# Altium integrated library WE_SMSI_rev20c.IntLib: 169 symbols (part 1 of 3)
Pins are listed as number, name and electrical type; pins without a type are passive.

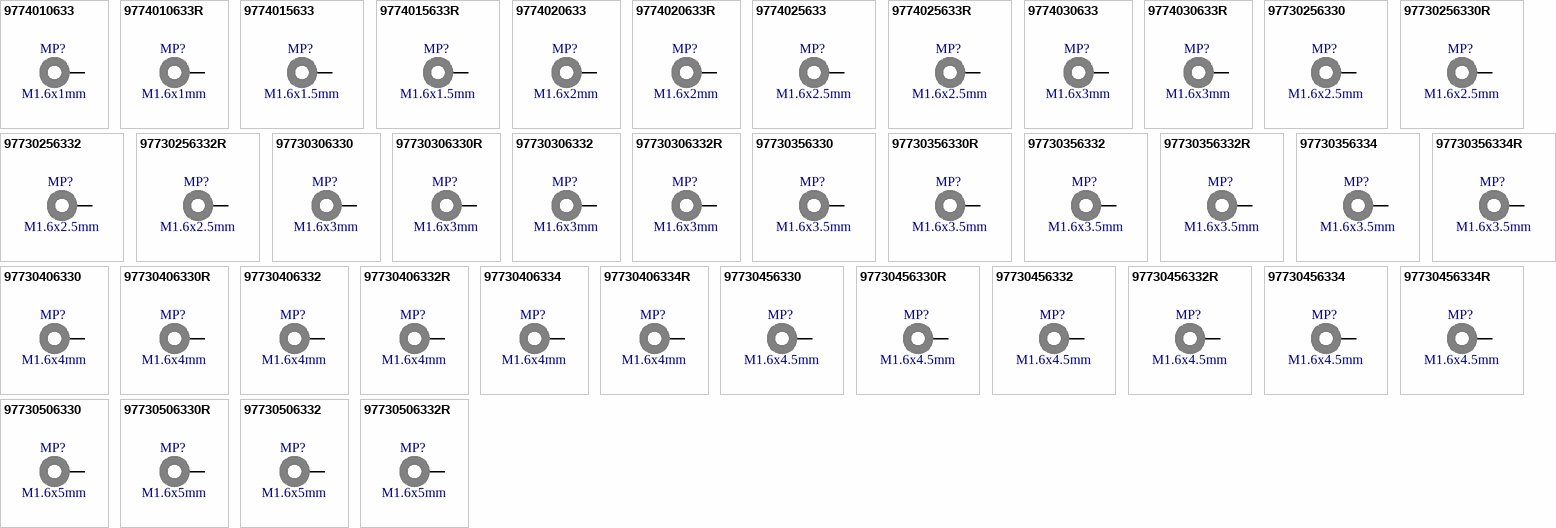
[diagram p0: symbols 9774010633 to 97730506332R]

## 9774010633
designator MP?, comment M1.6x1mm
WA-SMSI SMT Steel Spacer, M1.6 Thread Internal, OD 3.3mm, M1.6x1mm; Manufacturer Part Number: 9774010633; Manufacturer: Wurth Elektronik; Inner Diameter: 1.9mm; Surface: Tin; ComponentLink1Description: Manufacturer; ComponentLink1URL: http://www.we-online.de; ComponentLink2Description: Datasheet; ComponentLink2URL: https://www.we-online.com/catalog/datasheet/9774010633.pdf; Mounting Technology: SMT; Packaging: Bulk; Length: 1mm; Inner Thread Length: -; Operating Temperature: -55 to +150degC; Outer Diameter: 3.3mm; Published Date: April 2020; Material: Steel; Thread: M1.6
footprint 9774010633
pins: 1

## 9774010633R
designator MP?, comment M1.6x1mm
WA-SMSI SMT Steel Spacer, M1.6 Thread Internal, OD 3.3mm, M1.6x1mm; Manufacturer Part Number: 9774010633R; Manufacturer: Wurth Elektronik; Inner Diameter: 1.9mm; Surface: Tin; ComponentLink1Description: Manufacturer; ComponentLink1URL: http://www.we-online.de; ComponentLink2Description: Datasheet; ComponentLink2URL: https://www.we-online.com/catalog/datasheet/9774010633R.pdf; Mounting Technology: SMT; Packaging: Tape and Reel; Length: 1mm; Inner Thread Length: -; Operating Temperature: -55 to +150degC; Outer Diameter: 3.3mm; Published Date: April 2020; Material: Steel; Thread: M1.6
footprint 9774010633
pins: 1

## 9774015633
designator MP?, comment M1.6x1.5mm
WA-SMSI SMT Steel Spacer, M1.6 Thread Internal, OD 3.3mm, M1.6x1.5mm; Manufacturer Part Number: 9774015633; Manufacturer: Wurth Elektronik; Inner Diameter: 1.9mm; Surface: Tin; ComponentLink1Description: Manufacturer; ComponentLink1URL: http://www.we-online.de; ComponentLink2Description: Datasheet; ComponentLink2URL: https://www.we-online.com/catalog/datasheet/9774015633.pdf; Mounting Technology: SMT; Packaging: Bulk; Length: 1.5mm; Inner Thread Length: -; Operating Temperature: -55 to +150degC; Outer Diameter: 3.3mm; Published Date: April 2020; Material: Steel; Thread: M1.6
footprint 9774015633
pins: 1

## 9774015633R
designator MP?, comment M1.6x1.5mm
WA-SMSI SMT Steel Spacer, M1.6 Thread Internal, OD 3.3mm, M1.6x1.5mm; Manufacturer Part Number: 9774015633R; Manufacturer: Wurth Elektronik; Inner Diameter: 1.9mm; Surface: Tin; ComponentLink1Description: Manufacturer; ComponentLink1URL: http://www.we-online.de; ComponentLink2Description: Datasheet; ComponentLink2URL: https://www.we-online.com/catalog/datasheet/9774015633R.pdf; Mounting Technology: SMT; Packaging: Tape and Reel; Length: 1.5mm; Inner Thread Length: -; Operating Temperature: -55 to +150degC; Outer Diameter: 3.3mm; Published Date: April 2020; Material: Steel; Thread: M1.6
footprint 9774015633
pins: 1

## 9774020633
designator MP?, comment M1.6x2mm
WA-SMSI SMT Steel Spacer, M1.6 Thread Internal, OD 3.3mm, M1.6x2mm; Manufacturer Part Number: 9774020633; Manufacturer: Wurth Elektronik; Inner Diameter: 1.9mm; Surface: Tin; ComponentLink1Description: Manufacturer; ComponentLink1URL: http://www.we-online.de; ComponentLink2Description: Datasheet; ComponentLink2URL: https://www.we-online.com/catalog/datasheet/9774020633.pdf; Mounting Technology: SMT; Packaging: Bulk; Length: 2mm; Inner Thread Length: -; Operating Temperature: -55 to +150degC; Outer Diameter: 3.3mm; Published Date: April 2020; Material: Steel; Thread: M1.6
footprint 9774020633
pins: 1

## 9774020633R
designator MP?, comment M1.6x2mm
WA-SMSI SMT Steel Spacer, M1.6 Thread Internal, OD 3.3mm, M1.6x2mm; Manufacturer Part Number: 9774020633R; Manufacturer: Wurth Elektronik; Inner Diameter: 1.9mm; Surface: Tin; ComponentLink1Description: Manufacturer; ComponentLink1URL: http://www.we-online.de; ComponentLink2Description: Datasheet; ComponentLink2URL: https://www.we-online.com/catalog/datasheet/9774020633R.pdf; Mounting Technology: SMT; Packaging: Tape and Reel; Length: 2mm; Inner Thread Length: -; Operating Temperature: -55 to +150degC; Outer Diameter: 3.3mm; Published Date: April 2020; Material: Steel; Thread: M1.6
footprint 9774020633
pins: 1

## 9774025633
designator MP?, comment M1.6x2.5mm
WA-SMSI SMT Steel Spacer, M1.6 Thread Internal, OD 3.3mm, M1.6x2.5mm; Manufacturer Part Number: 9774025633; Manufacturer: Wurth Elektronik; Inner Diameter: 1.9mm; Surface: Tin; ComponentLink1Description: Manufacturer; ComponentLink1URL: http://www.we-online.de; ComponentLink2Description: Datasheet; ComponentLink2URL: https://www.we-online.com/catalog/datasheet/9774025633.pdf; Mounting Technology: SMT; Packaging: Bulk; Length: 2.5mm; Inner Thread Length: -; Operating Temperature: -55 to +150degC; Outer Diameter: 3.3mm; Published Date: April 2020; Material: Steel; Thread: M1.6
footprint 9774025633
pins: 1

## 9774025633R
designator MP?, comment M1.6x2.5mm
WA-SMSI SMT Steel Spacer, M1.6 Thread Internal, OD 3.3mm, M1.6x2.5mm; Manufacturer Part Number: 9774025633R; Manufacturer: Wurth Elektronik; Inner Diameter: 1.9mm; Surface: Tin; ComponentLink1Description: Manufacturer; ComponentLink1URL: http://www.we-online.de; ComponentLink2Description: Datasheet; ComponentLink2URL: https://www.we-online.com/catalog/datasheet/9774025633R.pdf; Mounting Technology: SMT; Packaging: Tape and Reel; Length: 2.5mm; Inner Thread Length: -; Operating Temperature: -55 to +150degC; Outer Diameter: 3.3mm; Published Date: April 2020; Material: Steel; Thread: M1.6
footprint 9774025633
pins: 1

## 9774030633
designator MP?, comment M1.6x3mm
WA-SMSI SMT Steel Spacer, M1.6 Thread Internal, OD 3.3mm, M1.6x3mm; Manufacturer Part Number: 9774030633; Manufacturer: Wurth Elektronik; Inner Diameter: 1.9mm; Surface: Tin; ComponentLink1Description: Manufacturer; ComponentLink1URL: http://www.we-online.de; ComponentLink2Description: Datasheet; ComponentLink2URL: https://www.we-online.com/catalog/datasheet/9774030633.pdf; Mounting Technology: SMT; Packaging: Bulk; Length: 3mm; Inner Thread Length: -; Operating Temperature: -55 to +150degC; Outer Diameter: 3.3mm; Published Date: April 2020; Material: Steel; Thread: M1.6
footprint 9774030633
pins: 1

## 9774030633R
designator MP?, comment M1.6x3mm
WA-SMSI SMT Steel Spacer, M1.6 Thread Internal, OD 3.3mm, M1.6x3mm; Manufacturer Part Number: 9774030633R; Manufacturer: Wurth Elektronik; Inner Diameter: 1.9mm; Surface: Tin; ComponentLink1Description: Manufacturer; ComponentLink1URL: http://www.we-online.de; ComponentLink2Description: Datasheet; ComponentLink2URL: https://www.we-online.com/catalog/datasheet/9774030633R.pdf; Mounting Technology: SMT; Packaging: Tape and Reel; Length: 3mm; Inner Thread Length: -; Operating Temperature: -55 to +150degC; Outer Diameter: 3.3mm; Published Date: April 2020; Material: Steel; Thread: M1.6
footprint 9774030633
pins: 1

## 97730256330
designator MP?, comment M1.6x2.5mm
WA-SMSI SMT Steel Spacer, M1.6 Thread Internal Bottom closed, OD 3.3mm, M1.6x2.5mm; Manufacturer Part Number: 97730256330; Manufacturer: Wurth Elektronik; Inner Thread Length: 1.5mm; Surface: Tin; ComponentLink1Description: Manufacturer; ComponentLink1URL: http://www.we-online.de; ComponentLink2Description: Datasheet; ComponentLink2URL: https://www.we-online.com/catalog/datasheet/97730256330.pdf; Mounting Technology: SMT; Packaging: Bulk; Inner Diameter: -; Length: 2.5mm; Operating Temperature: -55 to +150degC; Outer Diameter: 3.3mm; Published Date: April 2020; Material: Steel; Thread: M1.6
footprint 97730256330
pins: 1

## 97730256330R
designator MP?, comment M1.6x2.5mm
WA-SMSI SMT Steel Spacer, M1.6 Thread Internal Bottom closed, OD 3.3mm, M1.6x2.5mm; Manufacturer Part Number: 97730256330R; Manufacturer: Wurth Elektronik; Inner Thread Length: 1.5mm; Surface: Tin; ComponentLink1Description: Manufacturer; ComponentLink1URL: http://www.we-online.de; ComponentLink2Description: Datasheet; ComponentLink2URL: https://www.we-online.com/catalog/datasheet/97730256330R.pdf; Mounting Technology: SMT; Packaging: Tape and Reel; Inner Diameter: -; Length: 2.5mm; Operating Temperature: -55 to +150degC; Outer Diameter: 3.3mm; Published Date: April 2020; Material: Steel; Thread: M1.6
footprint 97730256330
pins: 1

## 97730256332
designator MP?, comment M1.6x2.5mm
WA-SMSI SMT Steel Spacer, M1.6 Thread Internal with Pin, OD 3.3mm, M1.6x2.5mm; Manufacturer Part Number: 97730256332; Manufacturer: Wurth Elektronik; Inner Thread Length: 1.5mm; Surface: Tin; ComponentLink1Description: Manufacturer; ComponentLink1URL: http://www.we-online.de; ComponentLink2Description: Datasheet; ComponentLink2URL: https://www.we-online.com/catalog/datasheet/97730256332.pdf; Mounting Technology: SMT; Packaging: Bulk; Inner Diameter: -; Length: 2.5mm; Operating Temperature: -55 to +150degC; Outer Diameter: 3.3mm; Published Date: April 2020; Material: Steel; Thread: M1.6
footprint 97730256332
pins: 1

## 97730256332R
designator MP?, comment M1.6x2.5mm
WA-SMSI SMT Steel Spacer, M1.6 Thread Internal with Pin, OD 3.3mm, M1.6x2.5mm; Manufacturer Part Number: 97730256332R; Manufacturer: Wurth Elektronik; Inner Thread Length: 1.5mm; Surface: Tin; ComponentLink1Description: Manufacturer; ComponentLink1URL: http://www.we-online.de; ComponentLink2Description: Datasheet; ComponentLink2URL: https://www.we-online.com/catalog/datasheet/97730256332R.pdf; Mounting Technology: SMT; Packaging: Tape and Reel; Inner Diameter: -; Length: 2.5mm; Operating Temperature: -55 to +150degC; Outer Diameter: 3.3mm; Published Date: April 2020; Material: Steel; Thread: M1.6
footprint 97730256332
pins: 1

## 97730306330
designator MP?, comment M1.6x3mm
WA-SMSI SMT Steel Spacer, M1.6 Thread Internal Bottom closed, OD 3.3mm, M1.6x3mm; Manufacturer Part Number: 97730306330; Manufacturer: Wurth Elektronik; Inner Thread Length: 1.8mm; Surface: Tin; ComponentLink1Description: Manufacturer; ComponentLink1URL: http://www.we-online.de; ComponentLink2Description: Datasheet; ComponentLink2URL: https://www.we-online.com/catalog/datasheet/97730306330.pdf; Mounting Technology: SMT; Packaging: Bulk; Inner Diameter: -; Length: 3mm; Operating Temperature: -55 to +150degC; Outer Diameter: 3.3mm; Published Date: April 2020; Material: Steel; Thread: M1.6
footprint 97730306330
pins: 1

## 97730306330R
designator MP?, comment M1.6x3mm
WA-SMSI SMT Steel Spacer, M1.6 Thread Internal Bottom closed, OD 3.3mm, M1.6x3mm; Manufacturer Part Number: 97730306330R; Manufacturer: Wurth Elektronik; Inner Thread Length: 1.8mm; Surface: Tin; ComponentLink1Description: Manufacturer; ComponentLink1URL: http://www.we-online.de; ComponentLink2Description: Datasheet; ComponentLink2URL: https://www.we-online.com/catalog/datasheet/97730306330R.pdf; Mounting Technology: SMT; Packaging: Tape and Reel; Inner Diameter: -; Length: 3mm; Operating Temperature: -55 to +150degC; Outer Diameter: 3.3mm; Published Date: April 2020; Material: Steel; Thread: M1.6
footprint 97730306330
pins: 1

## 97730306332
designator MP?, comment M1.6x3mm
WA-SMSI SMT Steel Spacer, M1.6 Thread Internal with Pin, OD 3.3mm, M1.6x3mm; Manufacturer Part Number: 97730306332; Manufacturer: Wurth Elektronik; Inner Thread Length: 1.8mm; Surface: Tin; ComponentLink1Description: Manufacturer; ComponentLink1URL: http://www.we-online.de; ComponentLink2Description: Datasheet; ComponentLink2URL: https://www.we-online.com/catalog/datasheet/97730306332.pdf; Mounting Technology: SMT; Packaging: Bulk; Inner Diameter: -; Length: 3mm; Operating Temperature: -55 to +150degC; Outer Diameter: 3.3mm; Published Date: April 2020; Material: Steel; Thread: M1.6
footprint 97730306332
pins: 1

## 97730306332R
designator MP?, comment M1.6x3mm
WA-SMSI SMT Steel Spacer, M1.6 Thread Internal with Pin, OD 3.3mm, M1.6x3mm; Manufacturer Part Number: 97730306332R; Manufacturer: Wurth Elektronik; Inner Thread Length: 1.8mm; Surface: Tin; ComponentLink1Description: Manufacturer; ComponentLink1URL: http://www.we-online.de; ComponentLink2Description: Datasheet; ComponentLink2URL: https://www.we-online.com/catalog/datasheet/97730306332R.pdf; Mounting Technology: SMT; Packaging: Tape and Reel; Inner Diameter: -; Length: 3mm; Operating Temperature: -55 to +150degC; Outer Diameter: 3.3mm; Published Date: April 2020; Material: Steel; Thread: M1.6
footprint 97730306332
pins: 1

## 97730356330
designator MP?, comment M1.6x3.5mm
WA-SMSI SMT Steel Spacer, M1.6 Thread Internal Bottom closed, OD 3.3mm, M1.6x3.5mm; Manufacturer Part Number: 97730356330; Manufacturer: Wurth Elektronik; Inner Thread Length: 2mm; Surface: Tin; ComponentLink1Description: Manufacturer; ComponentLink1URL: http://www.we-online.de; ComponentLink2Description: Datasheet; ComponentLink2URL: https://www.we-online.com/catalog/datasheet/97730356330.pdf; Mounting Technology: SMT; Packaging: Bulk; Inner Diameter: -; Length: 3.5mm; Operating Temperature: -55 to +150degC; Outer Diameter: 3.3mm; Published Date: April 2020; Material: Steel; Thread: M1.6
footprint 97730356330
pins: 1

## 97730356330R
designator MP?, comment M1.6x3.5mm
WA-SMSI SMT Steel Spacer, M1.6 Thread Internal Bottom closed, OD 3.3mm, M1.6x3.5mm; Manufacturer Part Number: 97730356330R; Manufacturer: Wurth Elektronik; Inner Thread Length: 2mm; Surface: Tin; ComponentLink1Description: Manufacturer; ComponentLink1URL: http://www.we-online.de; ComponentLink2Description: Datasheet; ComponentLink2URL: https://www.we-online.com/catalog/datasheet/97730356330R.pdf; Mounting Technology: SMT; Packaging: Tape and Reel; Inner Diameter: -; Length: 3.5mm; Operating Temperature: -55 to +150degC; Outer Diameter: 3.3mm; Published Date: April 2020; Material: Steel; Thread: M1.6
footprint 97730356330
pins: 1

## 97730356332
designator MP?, comment M1.6x3.5mm
WA-SMSI SMT Steel Spacer, M1.6 Thread Internal with Pin, OD 3.3mm, M1.6x3.5mm; Manufacturer Part Number: 97730356332; Manufacturer: Wurth Elektronik; Inner Thread Length: 2mm; Surface: Tin; ComponentLink1Description: Manufacturer; ComponentLink1URL: http://www.we-online.de; ComponentLink2Description: Datasheet; ComponentLink2URL: https://www.we-online.com/catalog/datasheet/97730356332.pdf; Mounting Technology: SMT; Packaging: Bulk; Inner Diameter: -; Length: 3.5mm; Operating Temperature: -55 to +150degC; Outer Diameter: 3.3mm; Published Date: April 2020; Material: Steel; Thread: M1.6
footprint 97730356332
pins: 1

## 97730356332R
designator MP?, comment M1.6x3.5mm
WA-SMSI SMT Steel Spacer, M1.6 Thread Internal with Pin, OD 3.3mm, M1.6x3.5mm; Manufacturer Part Number: 97730356332R; Manufacturer: Wurth Elektronik; Inner Thread Length: 2mm; Surface: Tin; ComponentLink1Description: Manufacturer; ComponentLink1URL: http://www.we-online.de; ComponentLink2Description: Datasheet; ComponentLink2URL: https://www.we-online.com/catalog/datasheet/97730356332R.pdf; Mounting Technology: SMT; Packaging: Tape and Reel; Inner Diameter: -; Length: 3.5mm; Operating Temperature: -55 to +150degC; Outer Diameter: 3.3mm; Published Date: April 2020; Material: Steel; Thread: M1.6
footprint 97730356332
pins: 1

## 97730356334
designator MP?, comment M1.6x3.5mm
WA-SMSI SMT Steel Spacer, M1.6 Thread Internal, OD 3.3mm, M1.6x3.5mm; Manufacturer Part Number: 97730356334; Manufacturer: Wurth Elektronik; Inner Diameter: 1.9mm; Inner Thread Length: 2mm; Surface: Tin; ComponentLink1Description: Manufacturer; ComponentLink1URL: http://www.we-online.de; ComponentLink2Description: Datasheet; ComponentLink2URL: https://www.we-online.com/catalog/datasheet/97730356334.pdf; Mounting Technology: SMT; Packaging: Bulk; Length: 3.5mm; Operating Temperature: -55 to +150degC; Outer Diameter: 3.3mm; Published Date: April 2020; Material: Steel; Thread: M1.6
footprint 97730356334
pins: 1

## 97730356334R
designator MP?, comment M1.6x3.5mm
WA-SMSI SMT Steel Spacer, M1.6 Thread Internal, OD 3.3mm, M1.6x3.5mm; Manufacturer Part Number: 97730356334R; Manufacturer: Wurth Elektronik; Inner Diameter: 1.9mm; Inner Thread Length: 2mm; Surface: Tin; ComponentLink1Description: Manufacturer; ComponentLink1URL: http://www.we-online.de; ComponentLink2Description: Datasheet; ComponentLink2URL: https://www.we-online.com/catalog/datasheet/97730356334R.pdf; Mounting Technology: SMT; Packaging: Tape and Reel; Length: 3.5mm; Operating Temperature: -55 to +150degC; Outer Diameter: 3.3mm; Published Date: April 2020; Material: Steel; Thread: M1.6
footprint 97730356334
pins: 1

## 97730406330
designator MP?, comment M1.6x4mm
WA-SMSI SMT Steel Spacer, M1.6 Thread Internal Bottom closed, OD 3.3mm, M1.6x4mm; Manufacturer Part Number: 97730406330; Manufacturer: Wurth Elektronik; Inner Thread Length: 2mm; Surface: Tin; ComponentLink1Description: Manufacturer; ComponentLink1URL: http://www.we-online.de; ComponentLink2Description: Datasheet; ComponentLink2URL: https://www.we-online.com/catalog/datasheet/97730406330.pdf; Mounting Technology: SMT; Packaging: Bulk; Inner Diameter: -; Length: 4mm; Operating Temperature: -55 to +150degC; Outer Diameter: 3.3mm; Published Date: April 2020; Material: Steel; Thread: M1.6
footprint 97730406330
pins: 1

## 97730406330R
designator MP?, comment M1.6x4mm
WA-SMSI SMT Steel Spacer, M1.6 Thread Internal Bottom closed, OD 3.3mm, M1.6x4mm; Manufacturer Part Number: 97730406330R; Manufacturer: Wurth Elektronik; Inner Thread Length: 2mm; Surface: Tin; ComponentLink1Description: Manufacturer; ComponentLink1URL: http://www.we-online.de; ComponentLink2Description: Datasheet; ComponentLink2URL: https://www.we-online.com/catalog/datasheet/97730406330R.pdf; Mounting Technology: SMT; Packaging: Tape and Reel; Inner Diameter: -; Length: 4mm; Operating Temperature: -55 to +150degC; Outer Diameter: 3.3mm; Published Date: April 2020; Material: Steel; Thread: M1.6
footprint 97730406330
pins: 1

## 97730406332
designator MP?, comment M1.6x4mm
WA-SMSI SMT Steel Spacer, M1.6 Thread Internal with Pin, OD 3.3mm, M1.6x4mm; Manufacturer Part Number: 97730406332; Manufacturer: Wurth Elektronik; Inner Thread Length: 2mm; Surface: Tin; ComponentLink1Description: Manufacturer; ComponentLink1URL: http://www.we-online.de; ComponentLink2Description: Datasheet; ComponentLink2URL: https://www.we-online.com/catalog/datasheet/97730406332.pdf; Mounting Technology: SMT; Packaging: Bulk; Inner Diameter: -; Length: 4mm; Operating Temperature: -55 to +150degC; Outer Diameter: 3.3mm; Published Date: April 2020; Material: Steel; Thread: M1.6
footprint 97730406332
pins: 1

## 97730406332R
designator MP?, comment M1.6x4mm
WA-SMSI SMT Steel Spacer, M1.6 Thread Internal with Pin, OD 3.3mm, M1.6x4mm; Manufacturer Part Number: 97730406332R; Manufacturer: Wurth Elektronik; Inner Thread Length: 2mm; Surface: Tin; ComponentLink1Description: Manufacturer; ComponentLink1URL: http://www.we-online.de; ComponentLink2Description: Datasheet; ComponentLink2URL: https://www.we-online.com/catalog/datasheet/97730406332R.pdf; Mounting Technology: SMT; Packaging: Tape and Reel; Inner Diameter: -; Length: 4mm; Operating Temperature: -55 to +150degC; Outer Diameter: 3.3mm; Published Date: April 2020; Material: Steel; Thread: M1.6
footprint 97730406332
pins: 1

## 97730406334
designator MP?, comment M1.6x4mm
WA-SMSI SMT Steel Spacer, M1.6 Thread Internal, OD 3.3mm, M1.6x4mm; Manufacturer Part Number: 97730406334; Manufacturer: Wurth Elektronik; Inner Diameter: 1.9mm; Inner Thread Length: 2mm; Surface: Tin; ComponentLink1Description: Manufacturer; ComponentLink1URL: http://www.we-online.de; ComponentLink2Description: Datasheet; ComponentLink2URL: https://www.we-online.com/catalog/datasheet/97730406334.pdf; Mounting Technology: SMT; Packaging: Bulk; Length: 4mm; Operating Temperature: -55 to +150degC; Outer Diameter: 3.3mm; Published Date: April 2020; Material: Steel; Thread: M1.6
footprint 97730406334
pins: 1

## 97730406334R
designator MP?, comment M1.6x4mm
WA-SMSI SMT Steel Spacer, M1.6 Thread Internal, OD 3.3mm, M1.6x4mm; Manufacturer Part Number: 97730406334R; Manufacturer: Wurth Elektronik; Inner Diameter: 1.9mm; Inner Thread Length: 2mm; Surface: Tin; ComponentLink1Description: Manufacturer; ComponentLink1URL: http://www.we-online.de; ComponentLink2Description: Datasheet; ComponentLink2URL: https://www.we-online.com/catalog/datasheet/97730406334R.pdf; Mounting Technology: SMT; Packaging: Tape and Reel; Length: 4mm; Operating Temperature: -55 to +150degC; Outer Diameter: 3.3mm; Published Date: April 2020; Material: Steel; Thread: M1.6
footprint 97730406334
pins: 1

## 97730456330
designator MP?, comment M1.6x4.5mm
WA-SMSI SMT Steel Spacer, M1.6 Thread Internal Bottom closed, OD 3.3mm, M1.6x4.5mm; Manufacturer Part Number: 97730456330; Manufacturer: Wurth Elektronik; Inner Thread Length: 2mm; Surface: Tin; ComponentLink1Description: Manufacturer; ComponentLink1URL: http://www.we-online.de; ComponentLink2Description: Datasheet; ComponentLink2URL: https://www.we-online.com/catalog/datasheet/97730456330.pdf; Mounting Technology: SMT; Packaging: Bulk; Inner Diameter: -; Length: 4.5mm; Operating Temperature: -55 to +150degC; Outer Diameter: 3.3mm; Published Date: April 2020; Material: Steel; Thread: M1.6
footprint 97730456330
pins: 1

## 97730456330R
designator MP?, comment M1.6x4.5mm
WA-SMSI SMT Steel Spacer, M1.6 Thread Internal Bottom closed, OD 3.3mm, M1.6x4.5mm; Manufacturer Part Number: 97730456330R; Manufacturer: Wurth Elektronik; Inner Thread Length: 2mm; Surface: Tin; ComponentLink1Description: Manufacturer; ComponentLink1URL: http://www.we-online.de; ComponentLink2Description: Datasheet; ComponentLink2URL: https://www.we-online.com/catalog/datasheet/97730456330R.pdf; Mounting Technology: SMT; Packaging: Tape and Reel; Inner Diameter: -; Length: 4.5mm; Operating Temperature: -55 to +150degC; Outer Diameter: 3.3mm; Published Date: April 2020; Material: Steel; Thread: M1.6
footprint 97730456330
pins: 1

## 97730456332
designator MP?, comment M1.6x4.5mm
WA-SMSI SMT Steel Spacer, M1.6 Thread Internal with Pin, OD 3.3mm, M1.6x4.5mm; Manufacturer Part Number: 97730456332; Manufacturer: Wurth Elektronik; Inner Thread Length: 2mm; Surface: Tin; ComponentLink1Description: Manufacturer; ComponentLink1URL: http://www.we-online.de; ComponentLink2Description: Datasheet; ComponentLink2URL: https://www.we-online.com/catalog/datasheet/97730456332.pdf; Mounting Technology: SMT; Packaging: Bulk; Inner Diameter: -; Length: 4.5mm; Operating Temperature: -55 to +150degC; Outer Diameter: 3.3mm; Published Date: April 2020; Material: Steel; Thread: M1.6
footprint 97730456332
pins: 1

## 97730456332R
designator MP?, comment M1.6x4.5mm
WA-SMSI SMT Steel Spacer, M1.6 Thread Internal with Pin, OD 3.3mm, M1.6x4.5mm; Manufacturer Part Number: 97730456332R; Manufacturer: Wurth Elektronik; Inner Thread Length: 2mm; Surface: Tin; ComponentLink1Description: Manufacturer; ComponentLink1URL: http://www.we-online.de; ComponentLink2Description: Datasheet; ComponentLink2URL: https://www.we-online.com/catalog/datasheet/97730456332R.pdf; Mounting Technology: SMT; Packaging: Tape and Reel; Inner Diameter: -; Length: 4.5mm; Operating Temperature: -55 to +150degC; Outer Diameter: 3.3mm; Published Date: April 2020; Material: Steel; Thread: M1.6
footprint 97730456332
pins: 1

## 97730456334
designator MP?, comment M1.6x4.5mm
WA-SMSI SMT Steel Spacer, M1.6 Thread Internal, OD 3.3mm, M1.6x4.5mm; Manufacturer Part Number: 97730456334; Manufacturer: Wurth Elektronik; Inner Diameter: 1.9mm; Inner Thread Length: 2mm; Surface: Tin; ComponentLink1Description: Manufacturer; ComponentLink1URL: http://www.we-online.de; ComponentLink2Description: Datasheet; ComponentLink2URL: https://www.we-online.com/catalog/datasheet/97730456334.pdf; Mounting Technology: SMT; Packaging: Bulk; Length: 4.5mm; Operating Temperature: -55 to +150degC; Outer Diameter: 3.3mm; Published Date: April 2020; Material: Steel; Thread: M1.6
footprint 97730456334
pins: 1

## 97730456334R
designator MP?, comment M1.6x4.5mm
WA-SMSI SMT Steel Spacer, M1.6 Thread Internal, OD 3.3mm, M1.6x4.5mm; Manufacturer Part Number: 97730456334R; Manufacturer: Wurth Elektronik; Inner Diameter: 1.9mm; Inner Thread Length: 2mm; Surface: Tin; ComponentLink1Description: Manufacturer; ComponentLink1URL: http://www.we-online.de; ComponentLink2Description: Datasheet; ComponentLink2URL: https://www.we-online.com/catalog/datasheet/97730456334R.pdf; Mounting Technology: SMT; Packaging: Tape and Reel; Length: 4.5mm; Operating Temperature: -55 to +150degC; Outer Diameter: 3.3mm; Published Date: April 2020; Material: Steel; Thread: M1.6
footprint 97730456334
pins: 1

## 97730506330
designator MP?, comment M1.6x5mm
WA-SMSI SMT Steel Spacer, M1.6 Thread Internal Bottom closed, OD 3.3mm, M1.6x5mm; Manufacturer Part Number: 97730506330; Manufacturer: Wurth Elektronik; Inner Thread Length: 2mm; Surface: Tin; ComponentLink1Description: Manufacturer; ComponentLink1URL: http://www.we-online.de; ComponentLink2Description: Datasheet; ComponentLink2URL: https://www.we-online.com/catalog/datasheet/97730506330.pdf; Mounting Technology: SMT; Packaging: Bulk; Inner Diameter: -; Length: 5mm; Operating Temperature: -55 to +150degC; Outer Diameter: 3.3mm; Published Date: April 2020; Material: Steel; Thread: M1.6
footprint 97730506330
pins: 1

## 97730506330R
designator MP?, comment M1.6x5mm
WA-SMSI SMT Steel Spacer, M1.6 Thread Internal Bottom closed, OD 3.3mm, M1.6x5mm; Manufacturer Part Number: 97730506330R; Manufacturer: Wurth Elektronik; Inner Thread Length: 2mm; Surface: Tin; ComponentLink1Description: Manufacturer; ComponentLink1URL: http://www.we-online.de; ComponentLink2Description: Datasheet; ComponentLink2URL: https://www.we-online.com/catalog/datasheet/97730506330R.pdf; Mounting Technology: SMT; Packaging: Tape and Reel; Inner Diameter: -; Length: 5mm; Operating Temperature: -55 to +150degC; Outer Diameter: 3.3mm; Published Date: April 2020; Material: Steel; Thread: M1.6
footprint 97730506330
pins: 1

## 97730506332
designator MP?, comment M1.6x5mm
WA-SMSI SMT Steel Spacer, M1.6 Thread Internal with Pin, OD 3.3mm, M1.6x5mm; Manufacturer Part Number: 97730506332; Manufacturer: Wurth Elektronik; Inner Thread Length: 2mm; Surface: Tin; ComponentLink1Description: Manufacturer; ComponentLink1URL: http://www.we-online.de; ComponentLink2Description: Datasheet; ComponentLink2URL: https://www.we-online.com/catalog/datasheet/97730506332.pdf; Mounting Technology: SMT; Packaging: Bulk; Inner Diameter: -; Length: 5mm; Operating Temperature: -55 to +150degC; Outer Diameter: 3.3mm; Published Date: April 2020; Material: Steel; Thread: M1.6
footprint 97730506332
pins: 1

## 97730506332R
designator MP?, comment M1.6x5mm
WA-SMSI SMT Steel Spacer, M1.6 Thread Internal with Pin, OD 3.3mm, M1.6x5mm; Manufacturer Part Number: 97730506332R; Manufacturer: Wurth Elektronik; Inner Thread Length: 2mm; Surface: Tin; ComponentLink1Description: Manufacturer; ComponentLink1URL: http://www.we-online.de; ComponentLink2Description: Datasheet; ComponentLink2URL: https://www.we-online.com/catalog/datasheet/97730506332R.pdf; Mounting Technology: SMT; Packaging: Tape and Reel; Inner Diameter: -; Length: 5mm; Operating Temperature: -55 to +150degC; Outer Diameter: 3.3mm; Published Date: April 2020; Material: Steel; Thread: M1.6
footprint 97730506332
pins: 1

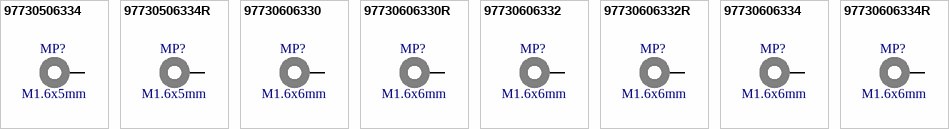
[diagram p1: symbols 97730506334 to 97730606334R]

## 97730506334
designator MP?, comment M1.6x5mm
WA-SMSI SMT Steel Spacer, M1.6 Thread Internal, OD 3.3mm, M1.6x5mm; Manufacturer Part Number: 97730506334; Manufacturer: Wurth Elektronik; Inner Diameter: 1.9mm; Inner Thread Length: 2mm; Surface: Tin; ComponentLink1Description: Manufacturer; ComponentLink1URL: http://www.we-online.de; ComponentLink2Description: Datasheet; ComponentLink2URL: https://www.we-online.com/catalog/datasheet/97730506334.pdf; Mounting Technology: SMT; Packaging: Bulk; Length: 5mm; Operating Temperature: -55 to +150degC; Outer Diameter: 3.3mm; Published Date: April 2020; Material: Steel; Thread: M1.6
footprint 97730506334
pins: 1

## 97730506334R
designator MP?, comment M1.6x5mm
WA-SMSI SMT Steel Spacer, M1.6 Thread Internal, OD 3.3mm, M1.6x5mm; Manufacturer Part Number: 97730506334R; Manufacturer: Wurth Elektronik; Inner Diameter: 1.9mm; Inner Thread Length: 2mm; Surface: Tin; ComponentLink1Description: Manufacturer; ComponentLink1URL: http://www.we-online.de; ComponentLink2Description: Datasheet; ComponentLink2URL: https://www.we-online.com/catalog/datasheet/97730506334R.pdf; Mounting Technology: SMT; Packaging: Tape and Reel; Length: 5mm; Operating Temperature: -55 to +150degC; Outer Diameter: 3.3mm; Published Date: April 2020; Material: Steel; Thread: M1.6
footprint 97730506334
pins: 1

## 97730606330
designator MP?, comment M1.6x6mm
WA-SMSI SMT Steel Spacer, M1.6 Thread Internal Bottom closed, OD 3.3mm, M1.6x6mm; Manufacturer Part Number: 97730606330; Manufacturer: Wurth Elektronik; Inner Thread Length: 2mm; Surface: Tin; ComponentLink1Description: Manufacturer; ComponentLink1URL: http://www.we-online.de; ComponentLink2Description: Datasheet; ComponentLink2URL: https://www.we-online.com/catalog/datasheet/97730606330.pdf; Mounting Technology: SMT; Packaging: Bulk; Inner Diameter: -; Length: 6mm; Operating Temperature: -55 to +150degC; Outer Diameter: 3.3mm; Published Date: April 2020; Material: Steel; Thread: M1.6
footprint 97730606330
pins: 1

## 97730606330R
designator MP?, comment M1.6x6mm
WA-SMSI SMT Steel Spacer, M1.6 Thread Internal Bottom closed, OD 3.3mm, M1.6x6mm; Manufacturer Part Number: 97730606330R; Manufacturer: Wurth Elektronik; Inner Thread Length: 2mm; Surface: Tin; ComponentLink1Description: Manufacturer; ComponentLink1URL: http://www.we-online.de; ComponentLink2Description: Datasheet; ComponentLink2URL: https://www.we-online.com/catalog/datasheet/97730606330R.pdf; Mounting Technology: SMT; Packaging: Tape and Reel; Inner Diameter: -; Length: 6mm; Operating Temperature: -55 to +150degC; Outer Diameter: 3.3mm; Published Date: April 2020; Material: Steel; Thread: M1.6
footprint 97730606330
pins: 1

## 97730606332
designator MP?, comment M1.6x6mm
WA-SMSI SMT Steel Spacer, M1.6 Thread Internal with Pin, OD 3.3mm, M1.6x6mm; Manufacturer Part Number: 97730606332; Manufacturer: Wurth Elektronik; Inner Thread Length: 2mm; Surface: Tin; ComponentLink1Description: Manufacturer; ComponentLink1URL: http://www.we-online.de; ComponentLink2Description: Datasheet; ComponentLink2URL: https://www.we-online.com/catalog/datasheet/97730606332.pdf; Mounting Technology: SMT; Packaging: Bulk; Inner Diameter: -; Length: 6mm; Operating Temperature: -55 to +150degC; Outer Diameter: 3.3mm; Published Date: April 2020; Material: Steel; Thread: M1.6
footprint 97730606332
pins: 1

## 97730606332R
designator MP?, comment M1.6x6mm
WA-SMSI SMT Steel Spacer, M1.6 Thread Internal with Pin, OD 3.3mm, M1.6x6mm; Manufacturer Part Number: 97730606332R; Manufacturer: Wurth Elektronik; Inner Thread Length: 2mm; Surface: Tin; ComponentLink1Description: Manufacturer; ComponentLink1URL: http://www.we-online.de; ComponentLink2Description: Datasheet; ComponentLink2URL: https://www.we-online.com/catalog/datasheet/97730606332R.pdf; Mounting Technology: SMT; Packaging: Tape and Reel; Inner Diameter: -; Length: 6mm; Operating Temperature: -55 to +150degC; Outer Diameter: 3.3mm; Published Date: April 2020; Material: Steel; Thread: M1.6
footprint 97730606332
pins: 1

## 97730606334
designator MP?, comment M1.6x6mm
WA-SMSI SMT Steel Spacer, M1.6 Thread Internal, OD 3.3mm, M1.6x6mm; Manufacturer Part Number: 97730606334; Manufacturer: Wurth Elektronik; Inner Diameter: 1.9mm; Inner Thread Length: 2mm; Surface: Tin; ComponentLink1Description: Manufacturer; ComponentLink1URL: http://www.we-online.de; ComponentLink2Description: Datasheet; ComponentLink2URL: https://www.we-online.com/catalog/datasheet/97730606334.pdf; Mounting Technology: SMT; Packaging: Bulk; Length: 6mm; Operating Temperature: -55 to +150degC; Outer Diameter: 3.3mm; Published Date: April 2020; Material: Steel; Thread: M1.6
footprint 97730606334
pins: 1

## 97730606334R
designator MP?, comment M1.6x6mm
WA-SMSI SMT Steel Spacer, M1.6 Thread Internal, OD 3.3mm, M1.6x6mm; Manufacturer Part Number: 97730606334R; Manufacturer: Wurth Elektronik; Inner Diameter: 1.9mm; Inner Thread Length: 2mm; Surface: Tin; ComponentLink1Description: Manufacturer; ComponentLink1URL: http://www.we-online.de; ComponentLink2Description: Datasheet; ComponentLink2URL: https://www.we-online.com/catalog/datasheet/97730606334R.pdf; Mounting Technology: SMT; Packaging: Tape and Reel; Length: 6mm; Operating Temperature: -55 to +150degC; Outer Diameter: 3.3mm; Published Date: April 2020; Material: Steel; Thread: M1.6
footprint 97730606334
pins: 1


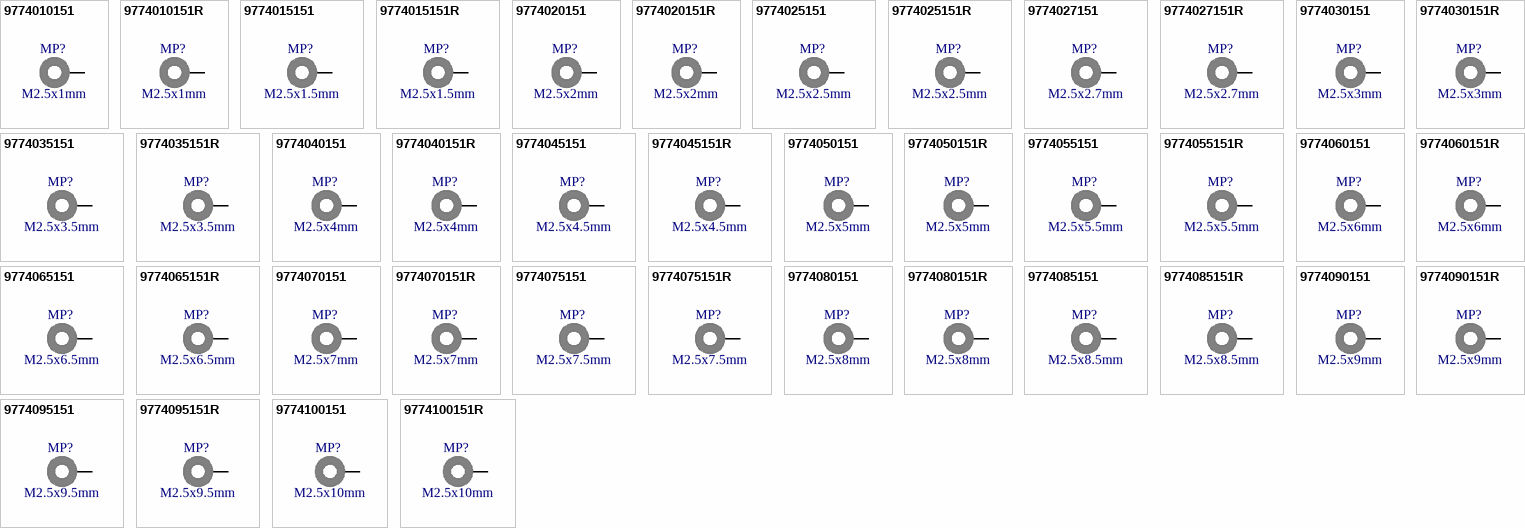
[diagram p2: symbols 9774010151 to 9774100151R]

## 9774010151
designator MP?, comment M2.5x1mm
WA-SMSI SMT Steel Spacer, M2.5 Thread Internal, OD 5.1mm, M2.5x1mm; Manufacturer Part Number: 9774010151; Manufacturer: Wurth Elektronik; Inner Diameter: 3.5mm; Surface: Tin; ComponentLink1Description: Manufacturer; ComponentLink1URL: http://www.we-online.de; ComponentLink2Description: Datasheet; ComponentLink2URL: https://www.we-online.com/catalog/datasheet/9774010151.pdf; Mounting Technology: SMT; Packaging: Bulk; Length: 1mm; Inner Thread Length: -; Operating Temperature: -55 to +150degC; Outer Diameter: 5.1mm; Published Date: April 2020; Material: Steel; Thread: M2.5
footprint 9774010151
pins: 1

## 9774010151R
designator MP?, comment M2.5x1mm
WA-SMSI SMT Steel Spacer, M2.5 Thread Internal, OD 5.1mm, M2.5x1mm; Manufacturer Part Number: 9774010151R; Manufacturer: Wurth Elektronik; Inner Diameter: 3.5mm; Surface: Tin; ComponentLink1Description: Manufacturer; ComponentLink1URL: http://www.we-online.de; ComponentLink2Description: Datasheet; ComponentLink2URL: https://www.we-online.com/catalog/datasheet/9774010151R.pdf; Mounting Technology: SMT; Packaging: Tape and Reel; Length: 1mm; Inner Thread Length: -; Operating Temperature: -55 to +150degC; Outer Diameter: 5.1mm; Published Date: April 2020; Material: Steel; Thread: M2.5
footprint 9774010151
pins: 1

## 9774015151
designator MP?, comment M2.5x1.5mm
WA-SMSI SMT Steel Spacer, M2.5 Thread Internal, OD 5.1mm, M2.5x1.5mm; Manufacturer Part Number: 9774015151; Manufacturer: Wurth Elektronik; Inner Diameter: 3.5mm; Surface: Tin; ComponentLink1Description: Manufacturer; ComponentLink1URL: http://www.we-online.de; ComponentLink2Description: Datasheet; ComponentLink2URL: https://www.we-online.com/catalog/datasheet/9774015151.pdf; Mounting Technology: SMT; Packaging: Bulk; Length: 1.5mm; Inner Thread Length: -; Operating Temperature: -55 to +150degC; Outer Diameter: 5.1mm; Published Date: April 2020; Material: Steel; Thread: M2.5
footprint 9774015151
pins: 1

## 9774015151R
designator MP?, comment M2.5x1.5mm
WA-SMSI SMT Steel Spacer, M2.5 Thread Internal, OD 5.1mm, M2.5x1.5mm; Manufacturer Part Number: 9774015151R; Manufacturer: Wurth Elektronik; Inner Diameter: 3.5mm; Surface: Tin; ComponentLink1Description: Manufacturer; ComponentLink1URL: http://www.we-online.de; ComponentLink2Description: Datasheet; ComponentLink2URL: https://www.we-online.com/catalog/datasheet/9774015151R.pdf; Mounting Technology: SMT; Packaging: Tape and Reel; Length: 1.5mm; Inner Thread Length: -; Operating Temperature: -55 to +150degC; Outer Diameter: 5.1mm; Published Date: April 2020; Material: Steel; Thread: M2.5
footprint 9774015151
pins: 1

## 9774020151
designator MP?, comment M2.5x2mm
WA-SMSI SMT Steel Spacer, M2.5 Thread Internal, OD 5.1mm, M2.5x2mm; Manufacturer Part Number: 9774020151; Manufacturer: Wurth Elektronik; Inner Diameter: 3.5mm; Surface: Tin; ComponentLink1Description: Manufacturer; ComponentLink1URL: http://www.we-online.de; ComponentLink2Description: Datasheet; ComponentLink2URL: https://www.we-online.com/catalog/datasheet/9774020151.pdf; Mounting Technology: SMT; Packaging: Bulk; Length: 2mm; Inner Thread Length: -; Operating Temperature: -55 to +150degC; Outer Diameter: 5.1mm; Published Date: April 2020; Material: Steel; Thread: M2.5
footprint 9774020151
pins: 1

## 9774020151R
designator MP?, comment M2.5x2mm
WA-SMSI SMT Steel Spacer, M2.5 Thread Internal, OD 5.1mm, M2.5x2mm; Manufacturer Part Number: 9774020151R; Manufacturer: Wurth Elektronik; Inner Diameter: 3.5mm; Surface: Tin; ComponentLink1Description: Manufacturer; ComponentLink1URL: http://www.we-online.de; ComponentLink2Description: Datasheet; ComponentLink2URL: https://www.we-online.com/catalog/datasheet/9774020151R.pdf; Mounting Technology: SMT; Packaging: Tape and Reel; Length: 2mm; Inner Thread Length: -; Operating Temperature: -55 to +150degC; Outer Diameter: 5.1mm; Published Date: April 2020; Material: Steel; Thread: M2.5
footprint 9774020151
pins: 1

## 9774025151
designator MP?, comment M2.5x2.5mm
WA-SMSI SMT Steel Spacer, M2.5 Thread Internal, OD 5.1mm, M2.5x2.5mm; Manufacturer Part Number: 9774025151; Manufacturer: Wurth Elektronik; Inner Diameter: 3.5mm; Surface: Tin; ComponentLink1Description: Manufacturer; ComponentLink1URL: http://www.we-online.de; ComponentLink2Description: Datasheet; ComponentLink2URL: https://www.we-online.com/catalog/datasheet/9774025151.pdf; Mounting Technology: SMT; Packaging: Bulk; Length: 2.5mm; Inner Thread Length: -; Operating Temperature: -55 to +150degC; Outer Diameter: 5.1mm; Published Date: April 2020; Material: Steel; Thread: M2.5
footprint 9774025151
pins: 1

## 9774025151R
designator MP?, comment M2.5x2.5mm
WA-SMSI SMT Steel Spacer, M2.5 Thread Internal, OD 5.1mm, M2.5x2.5mm; Manufacturer Part Number: 9774025151R; Manufacturer: Wurth Elektronik; Inner Diameter: 3.5mm; Surface: Tin; ComponentLink1Description: Manufacturer; ComponentLink1URL: http://www.we-online.de; ComponentLink2Description: Datasheet; ComponentLink2URL: https://www.we-online.com/catalog/datasheet/9774025151R.pdf; Mounting Technology: SMT; Packaging: Tape and Reel; Length: 2.5mm; Inner Thread Length: -; Operating Temperature: -55 to +150degC; Outer Diameter: 5.1mm; Published Date: April 2020; Material: Steel; Thread: M2.5
footprint 9774025151
pins: 1

## 9774027151
designator MP?, comment M2.5x2.7mm
WA-SMSI SMT Steel Spacer, M2.5 Thread Internal, OD 5.1mm, M2.5x2.7mm; Manufacturer Part Number: 9774027151; Manufacturer: Wurth Elektronik; Inner Diameter: 3.5mm; Surface: Tin; ComponentLink1Description: Manufacturer; ComponentLink1URL: http://www.we-online.de; ComponentLink2Description: Datasheet; ComponentLink2URL: https://www.we-online.com/catalog/datasheet/9774027151.pdf; Mounting Technology: SMT; Packaging: Bulk; Length: 2.7mm; Inner Thread Length: -; Operating Temperature: -55 to +150degC; Outer Diameter: 5.1mm; Published Date: April 2020; Material: Steel; Thread: M2.5
footprint 9774027151
pins: 1

## 9774027151R
designator MP?, comment M2.5x2.7mm
WA-SMSI SMT Steel Spacer, M2.5 Thread Internal, OD 5.1mm, M2.5x2.7mm; Manufacturer Part Number: 9774027151R; Manufacturer: Wurth Elektronik; Inner Diameter: 3.5mm; Surface: Tin; ComponentLink1Description: Manufacturer; ComponentLink1URL: http://www.we-online.de; ComponentLink2Description: Datasheet; ComponentLink2URL: https://www.we-online.com/catalog/datasheet/9774027151R.pdf; Mounting Technology: SMT; Packaging: Tape and Reel; Length: 2.7mm; Inner Thread Length: -; Operating Temperature: -55 to +150degC; Outer Diameter: 5.1mm; Published Date: April 2020; Material: Steel; Thread: M2.5
footprint 9774027151
pins: 1

## 9774030151
designator MP?, comment M2.5x3mm
WA-SMSI SMT Steel Spacer, M2.5 Thread Internal, OD 5.1mm, M2.5x3mm; Manufacturer Part Number: 9774030151; Manufacturer: Wurth Elektronik; Inner Diameter: 3.5mm; Surface: Tin; ComponentLink1Description: Manufacturer; ComponentLink1URL: http://www.we-online.de; ComponentLink2Description: Datasheet; ComponentLink2URL: https://www.we-online.com/catalog/datasheet/9774030151.pdf; Mounting Technology: SMT; Packaging: Bulk; Length: 3mm; Inner Thread Length: -; Operating Temperature: -55 to +150degC; Outer Diameter: 5.1mm; Published Date: April 2020; Material: Steel; Thread: M2.5
footprint 9774030151
pins: 1

## 9774030151R
designator MP?, comment M2.5x3mm
WA-SMSI SMT Steel Spacer, M2.5 Thread Internal, OD 5.1mm, M2.5x3mm; Manufacturer Part Number: 9774030151R; Manufacturer: Wurth Elektronik; Inner Diameter: 3.5mm; Surface: Tin; ComponentLink1Description: Manufacturer; ComponentLink1URL: http://www.we-online.de; ComponentLink2Description: Datasheet; ComponentLink2URL: https://www.we-online.com/catalog/datasheet/9774030151R.pdf; Mounting Technology: SMT; Packaging: Tape and Reel; Length: 3mm; Inner Thread Length: -; Operating Temperature: -55 to +150degC; Outer Diameter: 5.1mm; Published Date: April 2020; Material: Steel; Thread: M2.5
footprint 9774030151
pins: 1

## 9774035151
designator MP?, comment M2.5x3.5mm
WA-SMSI SMT Steel Spacer, M2.5 Thread Internal, OD 5.1mm, M2.5x3.5mm; Manufacturer Part Number: 9774035151; Manufacturer: Wurth Elektronik; Inner Diameter: 3.5mm; Surface: Tin; ComponentLink1Description: Manufacturer; ComponentLink1URL: http://www.we-online.de; ComponentLink2Description: Datasheet; ComponentLink2URL: https://www.we-online.com/catalog/datasheet/9774035151.pdf; Mounting Technology: SMT; Packaging: Bulk; Length: 3.5mm; Inner Thread Length: -; Operating Temperature: -55 to +150degC; Outer Diameter: 5.1mm; Published Date: April 2020; Material: Steel; Thread: M2.5
footprint 9774035151
pins: 1

## 9774035151R
designator MP?, comment M2.5x3.5mm
WA-SMSI SMT Steel Spacer, M2.5 Thread Internal, OD 5.1mm, M2.5x3.5mm; Manufacturer Part Number: 9774035151R; Manufacturer: Wurth Elektronik; Inner Diameter: 3.5mm; Surface: Tin; ComponentLink1Description: Manufacturer; ComponentLink1URL: http://www.we-online.de; ComponentLink2Description: Datasheet; ComponentLink2URL: https://www.we-online.com/catalog/datasheet/9774035151R.pdf; Mounting Technology: SMT; Packaging: Tape and Reel; Length: 3.5mm; Inner Thread Length: -; Operating Temperature: -55 to +150degC; Outer Diameter: 5.1mm; Published Date: April 2020; Material: Steel; Thread: M2.5
footprint 9774035151
pins: 1

## 9774040151
designator MP?, comment M2.5x4mm
WA-SMSI SMT Steel Spacer, M2.5 Thread Internal, OD 5.1mm, M2.5x4mm; Manufacturer Part Number: 9774040151; Manufacturer: Wurth Elektronik; Inner Diameter: 3.5mm; Surface: Tin; ComponentLink1Description: Manufacturer; ComponentLink1URL: http://www.we-online.de; ComponentLink2Description: Datasheet; ComponentLink2URL: https://www.we-online.com/catalog/datasheet/9774040151.pdf; Mounting Technology: SMT; Packaging: Bulk; Length: 4mm; Inner Thread Length: -; Operating Temperature: -55 to +150degC; Outer Diameter: 5.1mm; Published Date: April 2020; Material: Steel; Thread: M2.5
footprint 9774040151
pins: 1

## 9774040151R
designator MP?, comment M2.5x4mm
WA-SMSI SMT Steel Spacer, M2.5 Thread Internal, OD 5.1mm, M2.5x4mm; Manufacturer Part Number: 9774040151R; Manufacturer: Wurth Elektronik; Inner Diameter: 3.5mm; Surface: Tin; ComponentLink1Description: Manufacturer; ComponentLink1URL: http://www.we-online.de; ComponentLink2Description: Datasheet; ComponentLink2URL: https://www.we-online.com/catalog/datasheet/9774040151R.pdf; Mounting Technology: SMT; Packaging: Tape and Reel; Length: 4mm; Inner Thread Length: -; Operating Temperature: -55 to +150degC; Outer Diameter: 5.1mm; Published Date: April 2020; Material: Steel; Thread: M2.5
footprint 9774040151
pins: 1

## 9774045151
designator MP?, comment M2.5x4.5mm
WA-SMSI SMT Steel Spacer, M2.5 Thread Internal, OD 5.1mm, M2.5x4.5mm; Manufacturer Part Number: 9774045151; Manufacturer: Wurth Elektronik; Inner Diameter: 3.5mm; Surface: Tin; ComponentLink1Description: Manufacturer; ComponentLink1URL: http://www.we-online.de; ComponentLink2Description: Datasheet; ComponentLink2URL: https://www.we-online.com/catalog/datasheet/9774045151.pdf; Mounting Technology: SMT; Packaging: Bulk; Length: 4.5mm; Inner Thread Length: -; Operating Temperature: -55 to +150degC; Outer Diameter: 5.1mm; Published Date: April 2020; Material: Steel; Thread: M2.5
footprint 9774045151
pins: 1

## 9774045151R
designator MP?, comment M2.5x4.5mm
WA-SMSI SMT Steel Spacer, M2.5 Thread Internal, OD 5.1mm, M2.5x4.5mm; Manufacturer Part Number: 9774045151R; Manufacturer: Wurth Elektronik; Inner Diameter: 3.5mm; Surface: Tin; ComponentLink1Description: Manufacturer; ComponentLink1URL: http://www.we-online.de; ComponentLink2Description: Datasheet; ComponentLink2URL: https://www.we-online.com/catalog/datasheet/9774045151R.pdf; Mounting Technology: SMT; Packaging: Tape and Reel; Length: 4.5mm; Inner Thread Length: -; Operating Temperature: -55 to +150degC; Outer Diameter: 5.1mm; Published Date: April 2020; Material: Steel; Thread: M2.5
footprint 9774045151
pins: 1

## 9774050151
designator MP?, comment M2.5x5mm
WA-SMSI SMT Steel Spacer, M2.5 Thread Internal, OD 5.1mm, M2.5x5mm; Manufacturer Part Number: 9774050151; Manufacturer: Wurth Elektronik; Inner Diameter: 3.5mm; Surface: Tin; ComponentLink1Description: Manufacturer; ComponentLink1URL: http://www.we-online.de; ComponentLink2Description: Datasheet; ComponentLink2URL: https://www.we-online.com/catalog/datasheet/9774050151.pdf; Mounting Technology: SMT; Packaging: Bulk; Length: 5mm; Inner Thread Length: -; Operating Temperature: -55 to +150degC; Outer Diameter: 5.1mm; Published Date: April 2020; Material: Steel; Thread: M2.5
footprint 9774050151
pins: 1

## 9774050151R
designator MP?, comment M2.5x5mm
WA-SMSI SMT Steel Spacer, M2.5 Thread Internal, OD 5.1mm, M2.5x5mm; Manufacturer Part Number: 9774050151R; Manufacturer: Wurth Elektronik; Inner Diameter: 3.5mm; Surface: Tin; ComponentLink1Description: Manufacturer; ComponentLink1URL: http://www.we-online.de; ComponentLink2Description: Datasheet; ComponentLink2URL: https://www.we-online.com/catalog/datasheet/9774050151R.pdf; Mounting Technology: SMT; Packaging: Tape and Reel; Length: 5mm; Inner Thread Length: -; Operating Temperature: -55 to +150degC; Outer Diameter: 5.1mm; Published Date: April 2020; Material: Steel; Thread: M2.5
footprint 9774050151
pins: 1

## 9774055151
designator MP?, comment M2.5x5.5mm
WA-SMSI SMT Steel Spacer, M2.5 Thread Internal, OD 5.1mm, M2.5x5.5mm; Manufacturer Part Number: 9774055151; Manufacturer: Wurth Elektronik; Inner Diameter: 3.5mm; Surface: Tin; ComponentLink1Description: Manufacturer; ComponentLink1URL: http://www.we-online.de; ComponentLink2Description: Datasheet; ComponentLink2URL: https://www.we-online.com/catalog/datasheet/9774055151.pdf; Mounting Technology: SMT; Packaging: Bulk; Length: 5.5mm; Inner Thread Length: -; Operating Temperature: -55 to +150degC; Outer Diameter: 5.1mm; Published Date: April 2020; Material: Steel; Thread: M2.5
footprint 9774055151
pins: 1

## 9774055151R
designator MP?, comment M2.5x5.5mm
WA-SMSI SMT Steel Spacer, M2.5 Thread Internal, OD 5.1mm, M2.5x5.5mm; Manufacturer Part Number: 9774055151R; Manufacturer: Wurth Elektronik; Inner Diameter: 3.5mm; Surface: Tin; ComponentLink1Description: Manufacturer; ComponentLink1URL: http://www.we-online.de; ComponentLink2Description: Datasheet; ComponentLink2URL: https://www.we-online.com/catalog/datasheet/9774055151R.pdf; Mounting Technology: SMT; Packaging: Tape and Reel; Length: 5.5mm; Inner Thread Length: -; Operating Temperature: -55 to +150degC; Outer Diameter: 5.1mm; Published Date: April 2020; Material: Steel; Thread: M2.5
footprint 9774055151
pins: 1

## 9774060151
designator MP?, comment M2.5x6mm
WA-SMSI SMT Steel Spacer, M2.5 Thread Internal, OD 5.1mm, M2.5x6mm; Manufacturer Part Number: 9774060151; Manufacturer: Wurth Elektronik; Inner Diameter: 3.5mm; Surface: Tin; ComponentLink1Description: Manufacturer; ComponentLink1URL: http://www.we-online.de; ComponentLink2Description: Datasheet; ComponentLink2URL: https://www.we-online.com/catalog/datasheet/9774060151.pdf; Mounting Technology: SMT; Packaging: Bulk; Length: 6mm; Inner Thread Length: -; Operating Temperature: -55 to +150degC; Outer Diameter: 5.1mm; Published Date: April 2020; Material: Steel; Thread: M2.5
footprint 9774060151
pins: 1

## 9774060151R
designator MP?, comment M2.5x6mm
WA-SMSI SMT Steel Spacer, M2.5 Thread Internal, OD 5.1mm, M2.5x6mm; Manufacturer Part Number: 9774060151R; Manufacturer: Wurth Elektronik; Inner Diameter: 3.5mm; Surface: Tin; ComponentLink1Description: Manufacturer; ComponentLink1URL: http://www.we-online.de; ComponentLink2Description: Datasheet; ComponentLink2URL: https://www.we-online.com/catalog/datasheet/9774060151R.pdf; Mounting Technology: SMT; Packaging: Tape and Reel; Length: 6mm; Inner Thread Length: -; Operating Temperature: -55 to +150degC; Outer Diameter: 5.1mm; Published Date: April 2020; Material: Steel; Thread: M2.5
footprint 9774060151
pins: 1

## 9774065151
designator MP?, comment M2.5x6.5mm
WA-SMSI SMT Steel Spacer, M2.5 Thread Internal, OD 5.1mm, M2.5x6.5mm; Manufacturer Part Number: 9774065151; Manufacturer: Wurth Elektronik; Inner Diameter: 3.5mm; Surface: Tin; ComponentLink1Description: Manufacturer; ComponentLink1URL: http://www.we-online.de; ComponentLink2Description: Datasheet; ComponentLink2URL: https://www.we-online.com/catalog/datasheet/9774065151.pdf; Mounting Technology: SMT; Packaging: Bulk; Length: 6.5mm; Inner Thread Length: -; Operating Temperature: -55 to +150degC; Outer Diameter: 5.1mm; Published Date: April 2020; Material: Steel; Thread: M2.5
footprint 9774065151
pins: 1

## 9774065151R
designator MP?, comment M2.5x6.5mm
WA-SMSI SMT Steel Spacer, M2.5 Thread Internal, OD 5.1mm, M2.5x6.5mm; Manufacturer Part Number: 9774065151R; Manufacturer: Wurth Elektronik; Inner Diameter: 3.5mm; Surface: Tin; ComponentLink1Description: Manufacturer; ComponentLink1URL: http://www.we-online.de; ComponentLink2Description: Datasheet; ComponentLink2URL: https://www.we-online.com/catalog/datasheet/9774065151R.pdf; Mounting Technology: SMT; Packaging: Tape and Reel; Length: 6.5mm; Inner Thread Length: -; Operating Temperature: -55 to +150degC; Outer Diameter: 5.1mm; Published Date: April 2020; Material: Steel; Thread: M2.5
footprint 9774065151
pins: 1